# Altium footprint library Diodes.PCBLIB: 9 footprints
Each footprint in its own frame and in the unit in brackets; x right, y up, seen from the top. Pads: shape width x height; smd on the part's side, far side on the other; paste and mask are expansions set on the pad; w line width, h text height; cw(c..) or ccw(c..) is an arc to the next point about the centre after c.
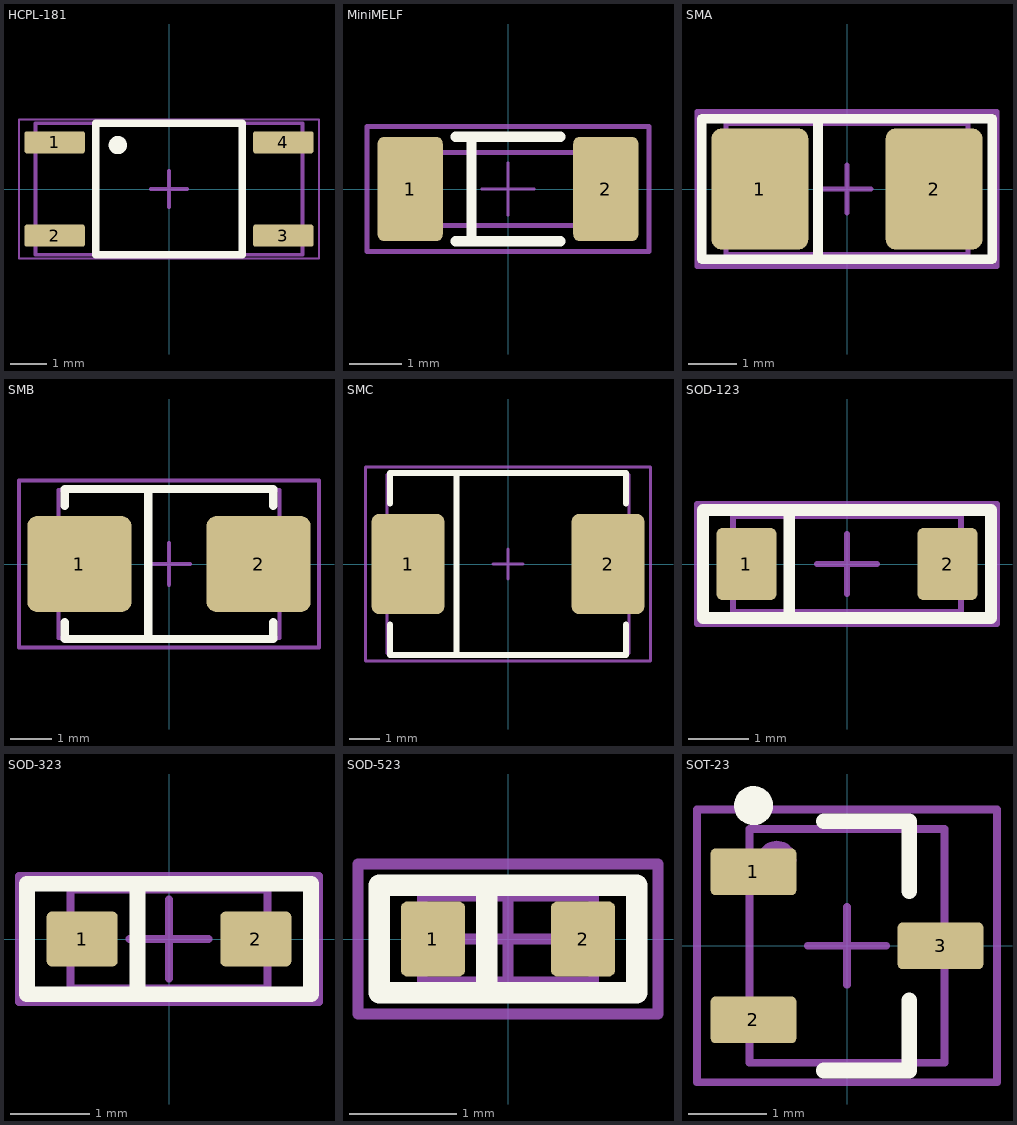
[diagram p0: the footprints below, top view; thin cyan lines are the x and y axes]

## HCPL-181 [mm] "SOT143, 4-Leads, Body 3,70x6,75mm, Pitch 2,55mm, IPC Medium Density"
height 2.2
pads (4):
  rrect20% 1.65x0.6 smd: 1(-3.125,1.275) 2(-3.125,-1.275) 3(3.125,-1.275) 4(3.125,1.275)
Top Overlay:
  circle w0.25: c-1.4,1.2 r0.125
  lines w0.2: -2,-1.8 2,-1.8 2,1.8 -2,1.8 -2,-1.8
Mechanical 1:
  lines w0.1: -3.65,-1.8 3.65,-1.8 3.65,1.8 -3.65,1.8 -3.65,-1.8
Mechanical 15:
  lines w0.05: -4.1,-1.9 -4.1,1.9 4.1,1.9 4.1,-1.9 -4.1,-1.9
  lines w0.1: -0.5,0 0.5,0 ; 0,-0.5 0,0.5
3D body "SO-4_4.4x3.6mm_P2.54mm.step": height 1.1, standoff 0, extent -3.65,-1.8 3.65,1.8

## MiniMELF [mm]
pads (2):
  rrect20% 1.25x2 smd: 1(-1.875,0) 2(1.875,0)
Top Overlay:
  lines w0.2: -1,-1 1,-1 ; -1,1 1,1 ; -0.7,-1 -0.7,1
Mechanical 1:
  lines w0.1: -1.8,-0.699 1.8,-0.699 1.8,0.699 -1.8,0.699 -1.8,-0.699
Mechanical 15:
  lines w0.05: -0.5,0 0.5,0 ; 0,-0.5 0,0.5
  lines w0.1: -2.7,-1.2 2.7,-1.2 2.7,1.2 -2.7,1.2 -2.7,-1.2
3D body "D_MiniMELF.step": height 1.39, standoff 0, extent -1.8,-0.699 1.8,0.699

## SMA [mm]
pads (2):
  rrect20% 2x2.5 smd: 1(-1.8,0) 2(1.8,0)
Top Overlay:
  lines w0.2: -0.6,-1.45 -0.6,1.45 ; -3,-1.45 3,-1.45 3,1.45 -3,1.45 -3,-1.45
Mechanical 1:
  lines w0.1: -2.5,-1.35 -2.5,1.35 2.5,1.35 2.5,-1.35 -2.5,-1.35
Mechanical 15:
  lines w0.1: -0.5,0 0.5,0 ; 0,-0.5 0,0.5 ; -3.1,-1.6 -3.1,1.6 3.1,1.6 3.1,-1.6 -3.1,-1.6
3D body "D_SMA.step": height 2.22, standoff 0, extent -2.5,-1.35 2.5,1.35

## SMB [mm]
pads (2):
  rrect20% 2.5x2.3 smd: 1(-2.15,0) 2(2.15,0)
Top Overlay:
  lines w0.2: -2.5,-1.4 -2.5,-1.8 2.5,-1.8 2.5,-1.4 ; -2.5,1.4 -2.5,1.8 2.5,1.8 2.5,1.4 ; -0.5,-1.8 -0.5,1.8
Mechanical 1:
  lines w0.1: -2.65,-1.775 -2.65,1.775 2.65,1.775 2.65,-1.775 -2.65,-1.775
Mechanical 15:
  lines w0.1: -0.5,0 0.5,0 ; 0,-0.5 0,0.5 ; -3.6,-2 -3.6,2 3.6,2 3.6,-2 -3.6,-2
3D body "D_SMB.step": height 2.15, standoff 0, extent -2.65,-1.775 2.65,1.775

## SMC [mm]
pads (2):
  rrect20% 2.4x3.3 smd: 1(-3.3,0) 2(3.3,0)
Top Overlay:
  lines w0.2: -3.9,-2 -3.9,-3 3.9,-3 3.9,-2 ; -3.9,2 -3.9,3 3.9,3 3.9,2 ; -1.7,-3 -1.7,3
Mechanical 1:
  lines w0.1: -4,-2.95 -4,2.95 4,2.95 4,-2.95 -4,-2.95
Mechanical 15:
  lines w0.1: -0.5,0 0.5,0 ; 0,-0.5 0,0.5 ; -4.7,-3.2 -4.7,3.2 4.7,3.2 4.7,-3.2 -4.7,-3.2
3D body "D_SMC.step": height 2.31, standoff 0, extent -4,-2.95 4,2.95

## SOD-123 [mm]
pads (2):
  rrect20% 1x1.2 smd: 1(-1.675,0) 2(1.675,0)
Top Overlay:
  lines w0.2: -0.962,-0.9 -0.962,0.9 ; -2.4,-0.9 2.4,-0.9 2.4,0.9 -2.4,0.9 -2.4,-0.9
Mechanical 1:
  lines w0.1: -1.9,-0.8 1.9,-0.8 1.9,0.8 -1.9,0.8 -1.9,-0.8
Mechanical 15:
  lines w0.1: -0.5,0 0.5,0 ; 0,-0.5 0,0.5 ; -2.5,-1 2.5,-1 2.5,1 -2.5,1 -2.5,-1
3D body "D_SOD-123.step": height 1.25, standoff 0, extent -1.9,-0.8 1.9,0.8

## SOD-323 [mm]
pads (2):
  rrect20% 0.9x0.7 smd: 1(-1.1,0) 2(1.1,0)
Top Overlay:
  lines w0.2: -0.4,-0.7 -0.4,0.7 ; -1.8,-0.7 1.8,-0.7 1.8,0.7 -1.8,0.7 -1.8,-0.7
Mechanical 1:
  lines w0.1: -1.25,-0.625 -1.25,0.625 1.25,0.625 1.25,-0.625 -1.25,-0.625
Mechanical 15:
  lines w0.1: -0.5,0 0.5,0 ; 0,-0.5 0,0.5 ; -1.9,-0.8 1.9,-0.8 1.9,0.8 -1.9,0.8 -1.9,-0.8
3D body "D_SOD-323.step": height 1.1, standoff 0, extent -1.25,-0.625 1.25,0.625

## SOD-523 [mm]
pads (2):
  rrect20% 0.6x0.7 smd: 1(-0.7,0) 2(0.7,0)
Top Overlay:
  lines w0.2: -0.2,-0.5 -0.2,0.5 ; -1.2,-0.5 -1.2,0.5 1.2,0.5 1.2,-0.5 -1.2,-0.5
Mechanical 1:
  lines w0.1: -0.8,-0.4 0.8,-0.4 0.8,0.4 -0.8,0.4 -0.8,-0.4
Mechanical 15:
  lines w0.1: -0.6,0 0.4,0 ; 0,-0.5 0,0.5 ; -1.4,-0.7 -1.4,0.7 1.4,0.7 1.4,-0.7 -1.4,-0.7
3D body "D_SOD-523.step": height 0.63, standoff 0, extent -0.8,-0.4 0.8,0.4

## SOT-23 [mm]
height 1.1
pads (4):
  rrect20% 1.1x0.6 smd: 1(-1.2,0.95) 2(-1.2,-0.95) 3(1.2,0)
  round 0.5 on Mech1: ""(-0.9,1.1)
Top Overlay:
  circle w0.25: c-1.2,1.8 r0.125
  lines w0.2: -0.3,-1.6 0.8,-1.6 0.8,-0.7 ; -0.3,1.6 0.8,1.6 0.8,0.7
Mechanical 1:
  lines w0.1: -1.25,-1.5 1.25,-1.5 1.25,1.5 -1.25,1.5 -1.25,-1.5
Mechanical 15:
  lines w0.1: -0.5,0 0.5,0 ; 0,-0.5 0,0.5 ; -1.925,-1.75 1.925,-1.75 1.925,1.75 -1.925,1.75 -1.925,-1.75
3D body "D_SOT-23.step": height 1.2, standoff 0, extent -1.25,-1.5 1.25,1.5